# EAGLE library part SC2004 (library myparts)
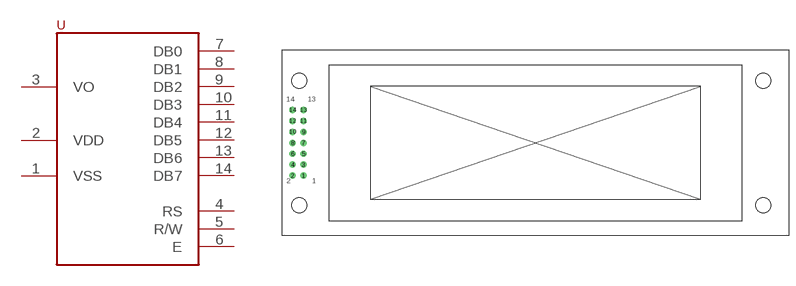
[diagram p14: symbol with the pads of SC2004; footprint SC2004]

Designator prefix -

## SC2004  [SC2004]
1  VSS  pwr
2  VDD  pwr
3  VO
4  RS
5  R/W
6  E
7  DB0
8  DB1
9  DB2
10  DB3
11  DB4
12  DB5
13  DB6
14  DB7

## Footprint SC2004 (pad centres in mm)
drill 1: 1 5.04,13.88; 2 2.5,13.88; 3 5.04,16.42; 4 2.5,16.42; 5 5.04,18.96; 6 2.5,18.96; 7 5.04,21.5; 8 2.5,21.5; 9 5.04,24.04; 10 2.5,24.04; 11 5.04,26.58; 12 2.5,26.58; 13 5.04,29.12; 14 2.5,29.12
hole 3.5 at 4,36
hole 3.5 at 4,7
hole 3.5 at 112,7
hole 3.5 at 112,36